# Altium footprint library Small Outline (~1.27mm Pitch) - 22+ Leads.PcbLib: 50 footprints (part 4 of 4)
Each footprint in its own frame and in the unit in brackets; x right, y up, seen from the top. Pads: shape width x height; smd on the part's side, far side on the other; paste and mask are expansions set on the pad; w line width, h text height; cw(c..) or ccw(c..) is an arc to the next point about the centre after c.
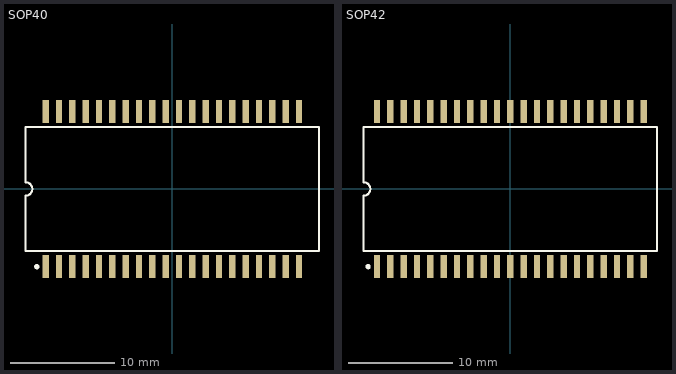
[diagram p3: the footprints below, top view; thin cyan lines are the x and y axes]

## SOP40 [mm] "Small Outline; 40 Leads; Body Width 12.9 mm; Pitch 1.27 mm"
height 4
pads (40):
  rect 0.6x2.2 smd: 1(-12.065,-7.4) 2(-10.795,-7.4) 3(-9.525,-7.4) 4(-8.255,-7.4) 5(-6.985,-7.4) 6(-5.715,-7.4) 7(-4.445,-7.4) 8(-3.175,-7.4) 9(-1.905,-7.4) 10(-0.635,-7.4) 11(0.635,-7.4) 12(1.905,-7.4) 13(3.175,-7.4) 14(4.445,-7.4) 15(5.715,-7.4) 16(6.985,-7.4) 17(8.255,-7.4) 18(9.525,-7.4) 19(10.795,-7.4) 20(12.065,-7.4) 21(12.065,7.4) 22(10.795,7.4) 23(9.525,7.4) 24(8.255,7.4) 25(6.985,7.4) 26(5.715,7.4) 27(4.445,7.4) 28(3.175,7.4) 29(1.905,7.4) 30(0.635,7.4) 31(-0.635,7.4) 32(-1.905,7.4) 33(-3.175,7.4) 34(-4.445,7.4) 35(-5.715,7.4) 36(-6.985,7.4) 37(-8.255,7.4) 38(-9.525,7.4) 39(-10.795,7.4) 40(-12.065,7.4)
Top Overlay:
  circle w0.25: c-12.915,-7.4 r0.125
  lines w0.2: -13.975,-5.9 13.975,-5.9 13.975,5.9 -13.975,5.9 -13.975,0.635 cw(c-13.975,0) -13.975,-0.635 -13.975,-5.9

## SOP42 [mm] "Small Outline; 42 Leads; Body Width 12.9 mm; Pitch 1.27 mm"
height 4
pads (42):
  rect 0.6x2.2 smd: 1(-12.7,-7.4) 2(-11.43,-7.4) 3(-10.16,-7.4) 4(-8.89,-7.4) 5(-7.62,-7.4) 6(-6.35,-7.4) 7(-5.08,-7.4) 8(-3.81,-7.4) 9(-2.54,-7.4) 10(-1.27,-7.4) 11(0,-7.4) 12(1.27,-7.4) 13(2.54,-7.4) 14(3.81,-7.4) 15(5.08,-7.4) 16(6.35,-7.4) 17(7.62,-7.4) 18(8.89,-7.4) 19(10.16,-7.4) 20(11.43,-7.4) 21(12.7,-7.4) 22(12.7,7.4) 23(11.43,7.4) 24(10.16,7.4) 25(8.89,7.4) 26(7.62,7.4) 27(6.35,7.4) 28(5.08,7.4) 29(3.81,7.4) 30(2.54,7.4) 31(1.27,7.4) 32(0,7.4) 33(-1.27,7.4) 34(-2.54,7.4) 35(-3.81,7.4) 36(-5.08,7.4) 37(-6.35,7.4) 38(-7.62,7.4) 39(-8.89,7.4) 40(-10.16,7.4) 41(-11.43,7.4) 42(-12.7,7.4)
Top Overlay:
  circle w0.25: c-13.55,-7.4 r0.125
  lines w0.2: -13.975,-5.9 13.975,-5.9 13.975,5.9 -13.975,5.9 -13.975,0.635 cw(c-13.975,0) -13.975,-0.635 -13.975,-5.9